# Altium integrated library TI Data Converters Analog to Digital Converter.IntLib: 2197 symbols (part 112 of 168)
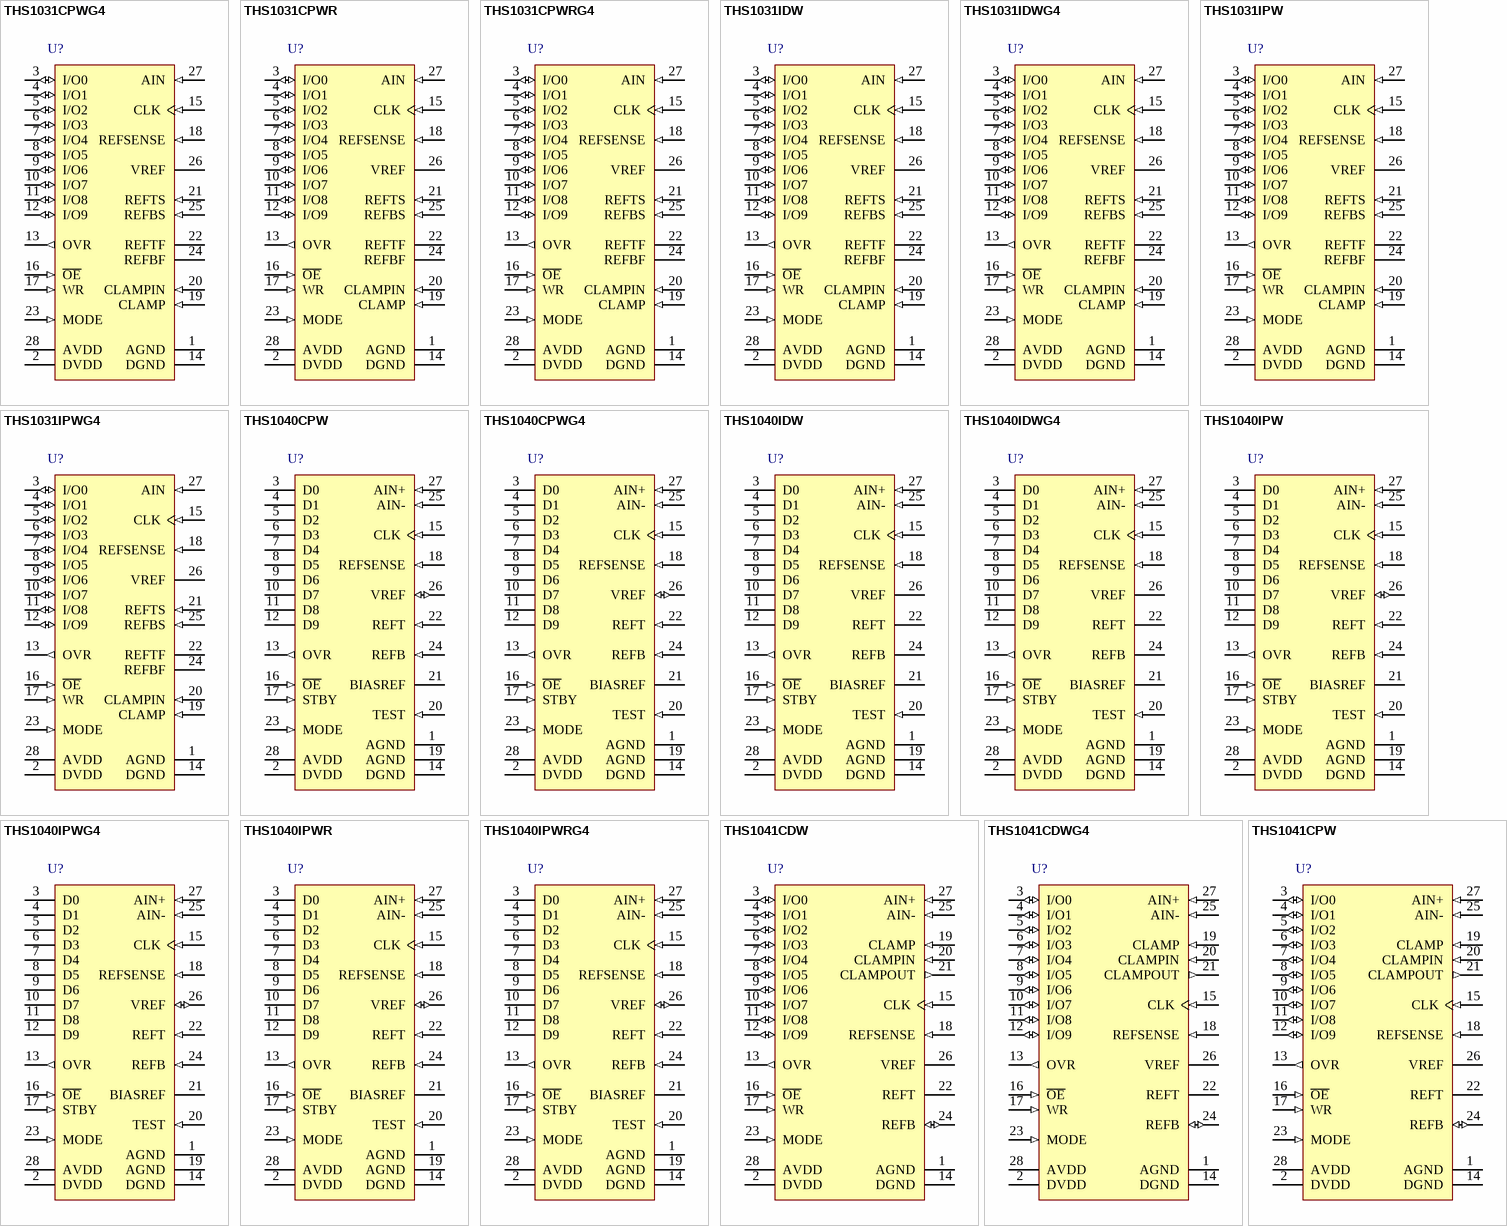
[diagram p237: symbols THS1031CPWG4 to THS1041CPW]

## THS1040IPWRG4
designator U?
10-Bit, 40 MSPS Low Power ADC, -40 to 85 degC, 28-pin SOP (PW28), Green (RoHS & no Sb/Br); Manufacturer: Texas Instruments; PartNumber: THS1040IPWRG4; # Input Channels: 1; Analog Voltage AV/DD(Max)(V): 3.6; Analog Voltage AV/DD(Min)(V): 3; Architecture: Pipeline; ENOB(Bits): 9.5; INL(Max)(+/-LSB): 1.5; Interface: Parallel CMOS; Resolution(Bits): 10; Sample Rate (max)(SPS): 40M; SFDR(dB): 70; SINAD(dB): 59.6; SNR(dB): 57; SubFamily: High Speed ADC (>10MSPS); DatasheetVersion: SLAS290C; PackageVersion: 4040064-7/G, 02/2011; PackageReference: PW28; PackageDescription: 28-Pin Plastic Small Outline, Body 9.7 x 4.4 mm, Pitch 0.65 mm; Supplier 1: Digi-Key; Supplier Part Number 1: 296-2939-5-ND; Supplier 2: Newark; Supplier Part Number 2: 76C7436; Supplier 3: Mouser; Supplier Part Number 3: 595-TLC5510INS; Digital Supply(Max)(V): 3.6; Digital Supply(Min)(V): 3; Eco-Plan: Green (RoHS & no Sb/Br); Mounting Technology: Surface Mount; Code_JEDEC: MO-153; ComponentLink1Description: Manufacturer URL; ComponentLink1URL: http://www.ti.com/; ComponentLink2Description: Datasheet; ComponentLink2URL: http://www.ti.com/general/docs/lit/getliterature.tsp?genericPartNumber=THS1040&fileType=pdf; ComponentLink3Description: Package Specification; ComponentLink3URL: http://www.ti.com/litv/pdf/mpds364
footprint TI-PW28_N (SOP, 28-Leads, Body 9.7x4.4mm, Pitch 0.65mm, IPC Medium Density)
footprint TI-PW28_L (SOP, 28-Leads, Body 9.7x4.4mm, Pitch 0.65mm, IPC High Density)
footprint TI-PW28_M (SOP, 28-Leads, Body 9.7x4.4mm, Pitch 0.65mm, IPC Low Density)
pins: 1 AGND (power) "Analog ground", 2 DVDD (power) "Digital supply", 3 D0 (hiz) "Digital data bit 0 (LSB)", 4 D1 (hiz) "Digital data bit 1", 5 D2 (hiz) "Digital data bit 2", 6 D3 (hiz) "Digital data bit 3", 7 D4 (hiz) "Digital data bit 4", 8 D5 (hiz) "Digital data bit 5", 9 D6 (hiz) "Digital data bit 6", 10 D7 (hiz) "Digital data bit 7", 11 D8 (hiz) "Digital data bit 8", 12 D9 (hiz) "Digital data bit 9 (MSB)", 13 OVR (out) "Out-of-range indicator", 14 DGND (power) "Digital ground", 15 CLK (in) "Clock input", 16 ~{OE} (in) "High to 3-state the data bus, low to enable the data bus", 17 STBY (in) "Drive high to power-down the THS1040", 18 REFSENSE (in) "VREF mode control", 19 AGND (power) "Analog ground", 20 TEST (in) "Production test pin. Tie to DVDD or DGND", 21 BIASREF (hiz) "When the MODE pin is at AVDD, a buffered AVDD/2 is present at this pin that can be used by external input biasing circuits. The output is high impedance when MODE is AGND or AVDD/2.", 22 REFT (in) "Top ADC reference voltage", 23 MODE (in) "Operating mode select (AGND, AVDD/2, or AVDD)", 24 REFB (in) "Bottom ADC reference voltage", 25 AIN- (in) "Negative analog input", 26 VREF (io) "Internal or external reference", 27 AIN+ (in) "Positive analog input", 28 AVDD (power) "Analog supply"

## THS1041CDW
designator U?
10-Bit, 40 MSPS Low Power ADC with PGA and Internal Precision Clamp, 0 to 70 degC, 28-pin SOIC (DW28), Green (RoHS & no Sb/Br); Manufacturer: Texas Instruments; PartNumber: THS1041CDW; # Input Channels: 1; Analog Voltage AV/DD(Max)(V): 3.6; Analog Voltage AV/DD(Min)(V): 3; Architecture: Pipeline; ENOB(Bits): 9.5; INL(Max)(+/-LSB): 1.5; Interface: Parallel CMOS; Resolution(Bits): 10; Sample Rate (max)(SPS): 40M; SFDR(dB): 70; SINAD(dB): 59.6; SNR(dB): 57; SubFamily: High Speed ADC (>10MSPS); DatasheetVersion: SLAS289C; PackageVersion: 4040000-6/G, 01/2011; PackageReference: DW28; PackageDescription: 28-Pin Plastic Small Outline, Body 17.90 x 7.50 mm, Pitch 1.27 mm; Supplier 1: Digi-Key; Supplier Part Number 1: TLC5510INSG4-ND; Supplier 2: Mouser; Supplier Part Number 2: 595-TLC5510INSG4; Digital Supply(Max)(V): 3.6; Digital Supply(Min)(V): 3; Eco-Plan: Green (RoHS & no Sb/Br); Mounting Technology: Surface Mount; Code_JEDEC: MS-013; ComponentLink1Description: Manufacturer URL; ComponentLink1URL: http://www.ti.com/; ComponentLink2Description: Datasheet; ComponentLink2URL: http://www.ti.com/general/docs/lit/getliterature.tsp?genericPartNumber=THS1041&fileType=pdf; ComponentLink3Description: Package Specification; ComponentLink3URL: http://www.ti.com/lit/ml/mpds175a/mpds175a.pdf
footprint TI-DW28_N (SOIC, 28-Leads, Body 17.9x7.5mm, Pitch 1.27mm, IPC Medium Density)
footprint TI-DW28_L (SOIC, 28-Leads, Body 17.9x7.5mm, Pitch 1.27mm, IPC High Density)
footprint TI-DW28_M (SOIC, 28-Leads, Body 17.9x7.5mm, Pitch 1.27mm, IPC Low Density)
pins: 1 AGND (power) "Analog ground", 2 DVDD (power) "Digital supply", 3 I/O0 (io) "Digital I/O bit 0", 4 I/O1 (io) "Digital I/O bit 1", 5 I/O2 (io) "Digital I/O bit 2", 6 I/O3 (io) "Digital I/O bit 3", 7 I/O4 (io) "Digital I/O bit 4", 8 I/O5 (io) "Digital I/O bit 5", 9 I/O6 (io) "Digital I/O bit 6", 10 I/O7 (io) "Digital I/O bit 7", 11 I/O8 (io) "Digital I/O bit 8", 12 I/O9 (io) "Digital I/O bit 9", 13 OVR (out) "Out-of-range indicator", 14 DGND (power) "Digital ground", 15 CLK (in) "Clock input", 16 ~{OE} (in) "High to high-impedance state the data bus, low to enable the data bus", 17 WR (in) "Write strobe", 18 REFSENSE (in) "VREF mode control", 19 CLAMP (in) "High to enable clamp mode, low to disable clamp mode", 20 CLAMPIN (in) "Connect to an external analog clamp reference input.", 21 CLAMPOUT (out) "The CLAMPOUT pin can provide a dc restoration or a bias source function (see AC reference generation section). If neither function is required then the clamp can be disabled to save power (see power management section).", 22 REFT "Top ADC reference voltage", 23 MODE (in) "Operating mode select (AGND, AVDD/2, AVDD)", 24 REFB (io) "Bottom ADC reference voltage", 25 AIN- (in) "Negative analog input", 26 VREF "Internal or external reference", 27 AIN+ (in) "Positive analog input", 28 AVDD (power) "Analog supply"

## THS1041CDWG4
designator U?
10-Bit, 40 MSPS Low Power ADC with PGA and Internal Precision Clamp, 0 to 70 degC, 28-pin SOIC (DW28), Green (RoHS & no Sb/Br); Manufacturer: Texas Instruments; PartNumber: THS1041CDWG4; # Input Channels: 1; Analog Voltage AV/DD(Max)(V): 3.6; Analog Voltage AV/DD(Min)(V): 3; Architecture: Pipeline; ENOB(Bits): 9.5; INL(Max)(+/-LSB): 1.5; Interface: Parallel CMOS; Resolution(Bits): 10; Sample Rate (max)(SPS): 40M; SFDR(dB): 70; SINAD(dB): 59.6; SNR(dB): 57; SubFamily: High Speed ADC (>10MSPS); DatasheetVersion: SLAS289C; PackageVersion: 4040000-6/G, 01/2011; PackageReference: DW28; PackageDescription: 28-Pin Plastic Small Outline, Body 17.90 x 7.50 mm, Pitch 1.27 mm; Supplier 1: Digi-Key; Supplier Part Number 1: 296-2939-2-ND; Supplier 2: Digi-Key; Supplier Part Number 2: 296-2939-1-ND; Supplier 3: Digi-Key; Supplier Part Number 3: 296-2939-6-ND; Supplier 4: Newark; Supplier Part Number 4: 76C7437; Supplier 5: Mouser; Supplier Part Number 5: 595-TLC5510INSR; Digital Supply(Max)(V): 3.6; Digital Supply(Min)(V): 3; Eco-Plan: Green (RoHS & no Sb/Br); Mounting Technology: Surface Mount; Code_JEDEC: MS-013; ComponentLink1Description: Manufacturer URL; ComponentLink1URL: http://www.ti.com/; ComponentLink2Description: Datasheet; ComponentLink2URL: http://www.ti.com/general/docs/lit/getliterature.tsp?genericPartNumber=THS1041&fileType=pdf; ComponentLink3Description: Package Specification; ComponentLink3URL: http://www.ti.com/lit/ml/mpds175a/mpds175a.pdf
footprint TI-DW28_N (SOIC, 28-Leads, Body 17.9x7.5mm, Pitch 1.27mm, IPC Medium Density)
footprint TI-DW28_L (SOIC, 28-Leads, Body 17.9x7.5mm, Pitch 1.27mm, IPC High Density)
footprint TI-DW28_M (SOIC, 28-Leads, Body 17.9x7.5mm, Pitch 1.27mm, IPC Low Density)
pins: 1 AGND (power) "Analog ground", 2 DVDD (power) "Digital supply", 3 I/O0 (io) "Digital I/O bit 0", 4 I/O1 (io) "Digital I/O bit 1", 5 I/O2 (io) "Digital I/O bit 2", 6 I/O3 (io) "Digital I/O bit 3", 7 I/O4 (io) "Digital I/O bit 4", 8 I/O5 (io) "Digital I/O bit 5", 9 I/O6 (io) "Digital I/O bit 6", 10 I/O7 (io) "Digital I/O bit 7", 11 I/O8 (io) "Digital I/O bit 8", 12 I/O9 (io) "Digital I/O bit 9", 13 OVR (out) "Out-of-range indicator", 14 DGND (power) "Digital ground", 15 CLK (in) "Clock input", 16 ~{OE} (in) "High to high-impedance state the data bus, low to enable the data bus", 17 WR (in) "Write strobe", 18 REFSENSE (in) "VREF mode control", 19 CLAMP (in) "High to enable clamp mode, low to disable clamp mode", 20 CLAMPIN (in) "Connect to an external analog clamp reference input.", 21 CLAMPOUT (out) "The CLAMPOUT pin can provide a dc restoration or a bias source function (see AC reference generation section). If neither function is required then the clamp can be disabled to save power (see power management section).", 22 REFT "Top ADC reference voltage", 23 MODE (in) "Operating mode select (AGND, AVDD/2, AVDD)", 24 REFB (io) "Bottom ADC reference voltage", 25 AIN- (in) "Negative analog input", 26 VREF "Internal or external reference", 27 AIN+ (in) "Positive analog input", 28 AVDD (power) "Analog supply"

## THS1041CPW
designator U?
10-Bit, 40 MSPS Low Power ADC with PGA and Internal Precision Clamp, 0 to 70 degC, 28-pin SOP (PW28), Green (RoHS & no Sb/Br); Manufacturer: Texas Instruments; PartNumber: THS1041CPW; # Input Channels: 1; Analog Voltage AV/DD(Max)(V): 3.6; Analog Voltage AV/DD(Min)(V): 3; Architecture: Pipeline; ENOB(Bits): 9.5; INL(Max)(+/-LSB): 1.5; Interface: Parallel CMOS; Resolution(Bits): 10; Sample Rate (max)(SPS): 40M; SFDR(dB): 70; SINAD(dB): 59.6; SNR(dB): 57; SubFamily: High Speed ADC (>10MSPS); DatasheetVersion: SLAS289C; PackageVersion: 4040064-7/G, 02/2011; PackageReference: PW28; PackageDescription: 28-Pin Plastic Small Outline, Body 9.7 x 4.4 mm, Pitch 0.65 mm; Supplier 1: Digi-Key; Supplier Part Number 1: TLC5510INSRG4-ND; Supplier 2: Newark; Supplier Part Number 2: 54K1007; Supplier 3: Mouser; Supplier Part Number 3: 595-TLC5510INSRG4; Digital Supply(Max)(V): 3.6; Digital Supply(Min)(V): 3; Eco-Plan: Green (RoHS & no Sb/Br); Mounting Technology: Surface Mount; Code_JEDEC: MO-153; ComponentLink1Description: Manufacturer URL; ComponentLink1URL: http://www.ti.com/; ComponentLink2Description: Datasheet; ComponentLink2URL: http://www.ti.com/general/docs/lit/getliterature.tsp?genericPartNumber=THS1041&fileType=pdf; ComponentLink3Description: Package Specification; ComponentLink3URL: http://www.ti.com/litv/pdf/mpds364
footprint TI-PW28_N (SOP, 28-Leads, Body 9.7x4.4mm, Pitch 0.65mm, IPC Medium Density)
footprint TI-PW28_L (SOP, 28-Leads, Body 9.7x4.4mm, Pitch 0.65mm, IPC High Density)
footprint TI-PW28_M (SOP, 28-Leads, Body 9.7x4.4mm, Pitch 0.65mm, IPC Low Density)
pins: 1 AGND (power) "Analog ground", 2 DVDD (power) "Digital supply", 3 I/O0 (io) "Digital I/O bit 0", 4 I/O1 (io) "Digital I/O bit 1", 5 I/O2 (io) "Digital I/O bit 2", 6 I/O3 (io) "Digital I/O bit 3", 7 I/O4 (io) "Digital I/O bit 4", 8 I/O5 (io) "Digital I/O bit 5", 9 I/O6 (io) "Digital I/O bit 6", 10 I/O7 (io) "Digital I/O bit 7", 11 I/O8 (io) "Digital I/O bit 8", 12 I/O9 (io) "Digital I/O bit 9", 13 OVR (out) "Out-of-range indicator", 14 DGND (power) "Digital ground", 15 CLK (in) "Clock input", 16 ~{OE} (in) "High to high-impedance state the data bus, low to enable the data bus", 17 WR (in) "Write strobe", 18 REFSENSE (in) "VREF mode control", 19 CLAMP (in) "High to enable clamp mode, low to disable clamp mode", 20 CLAMPIN (in) "Connect to an external analog clamp reference input.", 21 CLAMPOUT (out) "The CLAMPOUT pin can provide a dc restoration or a bias source function (see AC reference generation section). If neither function is required then the clamp can be disabled to save power (see power management section).", 22 REFT "Top ADC reference voltage", 23 MODE (in) "Operating mode select (AGND, AVDD/2, AVDD)", 24 REFB (io) "Bottom ADC reference voltage", 25 AIN- (in) "Negative analog input", 26 VREF "Internal or external reference", 27 AIN+ (in) "Positive analog input", 28 AVDD (power) "Analog supply"

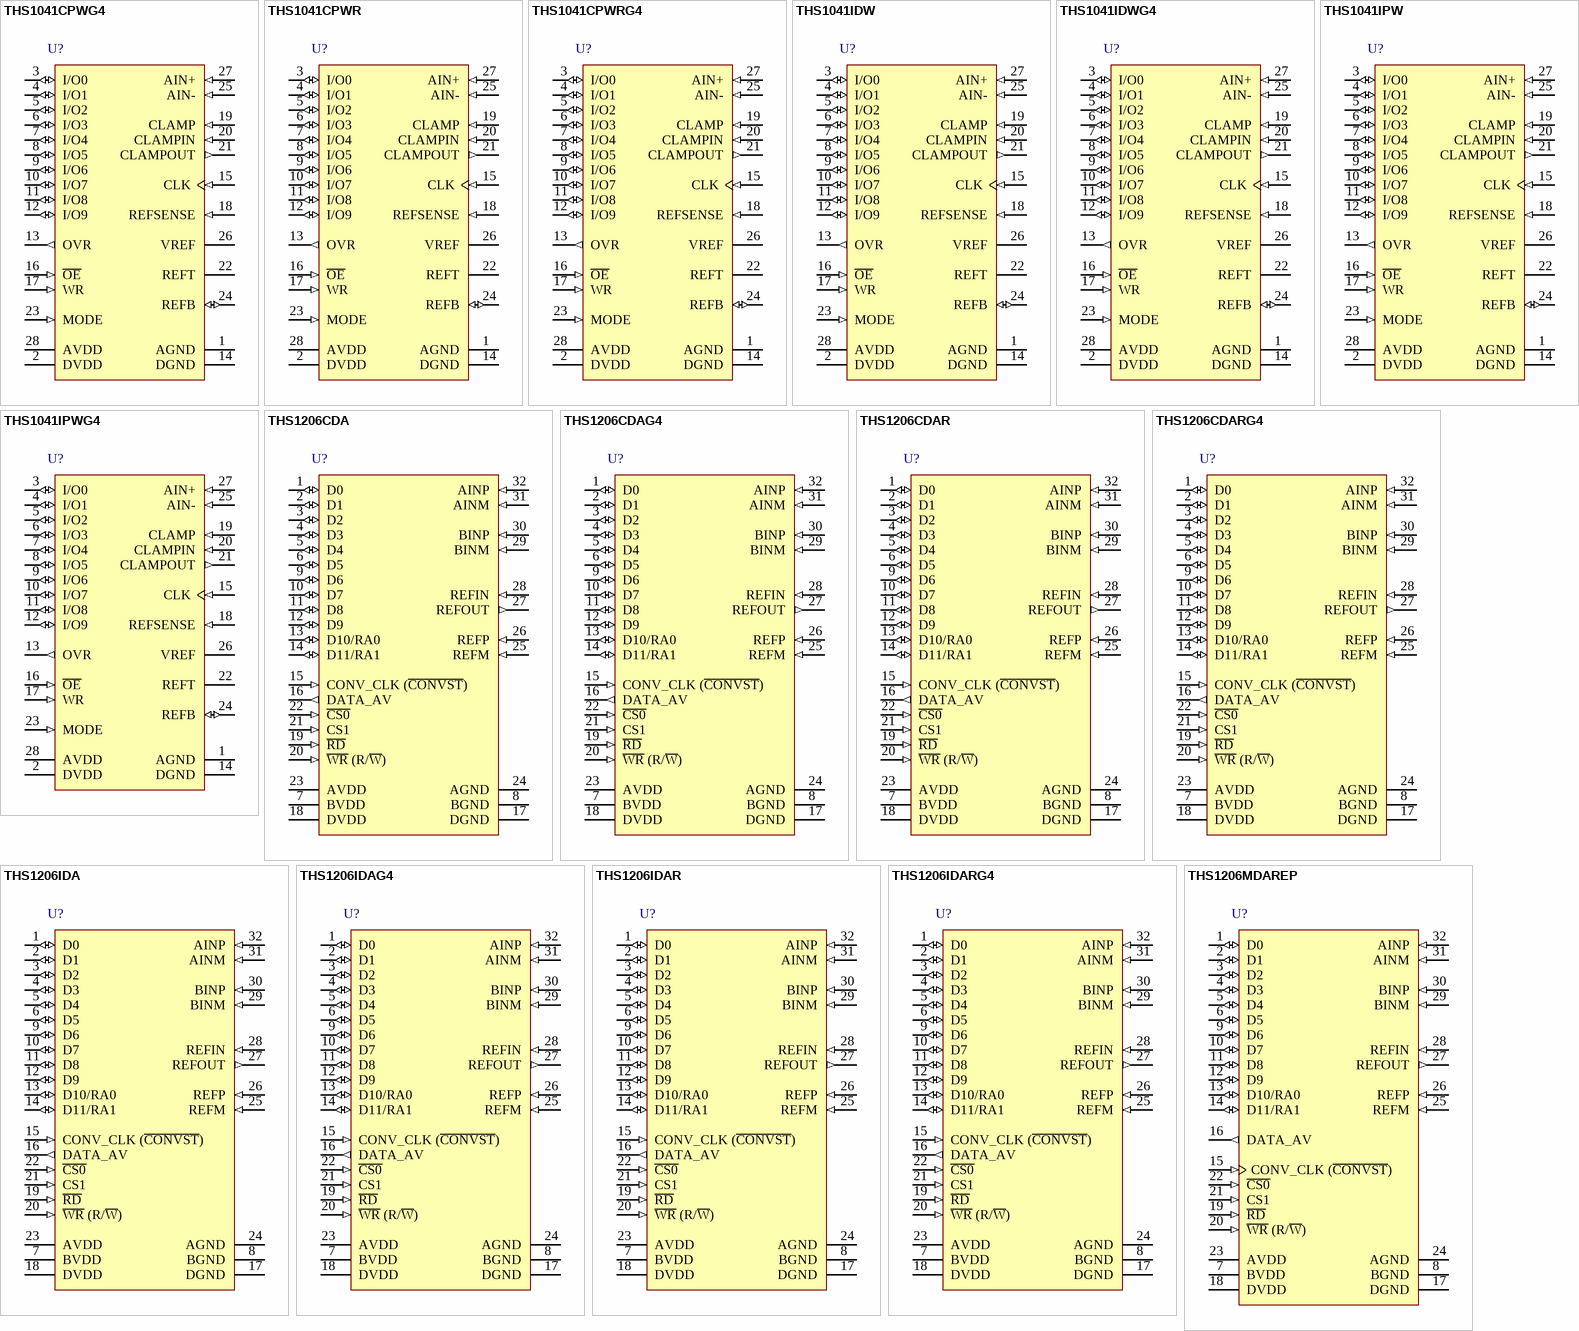
[diagram p96: symbols THS1041CPWG4 to THS1206MDAREP]

## THS1041CPWG4
designator U?
10-Bit, 40 MSPS Low Power ADC with PGA and Internal Precision Clamp, 0 to 70 degC, 28-pin SOP (PW28), Green (RoHS & no Sb/Br); Manufacturer: Texas Instruments; PartNumber: THS1041CPWG4; # Input Channels: 1; Analog Voltage AV/DD(Max)(V): 3.6; Analog Voltage AV/DD(Min)(V): 3; Architecture: Pipeline; ENOB(Bits): 9.5; INL(Max)(+/-LSB): 1.5; Interface: Parallel CMOS; Resolution(Bits): 10; Sample Rate (max)(SPS): 40M; SFDR(dB): 70; SINAD(dB): 59.6; SNR(dB): 57; SubFamily: High Speed ADC (>10MSPS); DatasheetVersion: SLAS289C; PackageVersion: 4040064-7/G, 02/2011; PackageReference: PW28; PackageDescription: 28-Pin Plastic Small Outline, Body 9.7 x 4.4 mm, Pitch 0.65 mm; Supplier 1: Digi-Key; Supplier Part Number 1: 296-2183-5-ND; Supplier 2: Farnell; Supplier Part Number 2: 8454370; Supplier 3: Newark; Supplier Part Number 3: 76C7438; Supplier 4: Mouser; Supplier Part Number 4: 595-TLC5510IPW; Digital Supply(Max)(V): 3.6; Digital Supply(Min)(V): 3; Eco-Plan: Green (RoHS & no Sb/Br); Mounting Technology: Surface Mount; Code_JEDEC: MO-153; ComponentLink1Description: Manufacturer URL; ComponentLink1URL: http://www.ti.com/; ComponentLink2Description: Datasheet; ComponentLink2URL: http://www.ti.com/general/docs/lit/getliterature.tsp?genericPartNumber=THS1041&fileType=pdf; ComponentLink3Description: Package Specification; ComponentLink3URL: http://www.ti.com/litv/pdf/mpds364
footprint TI-PW28_N (SOP, 28-Leads, Body 9.7x4.4mm, Pitch 0.65mm, IPC Medium Density)
footprint TI-PW28_L (SOP, 28-Leads, Body 9.7x4.4mm, Pitch 0.65mm, IPC High Density)
footprint TI-PW28_M (SOP, 28-Leads, Body 9.7x4.4mm, Pitch 0.65mm, IPC Low Density)
pins: 1 AGND (power) "Analog ground", 2 DVDD (power) "Digital supply", 3 I/O0 (io) "Digital I/O bit 0", 4 I/O1 (io) "Digital I/O bit 1", 5 I/O2 (io) "Digital I/O bit 2", 6 I/O3 (io) "Digital I/O bit 3", 7 I/O4 (io) "Digital I/O bit 4", 8 I/O5 (io) "Digital I/O bit 5", 9 I/O6 (io) "Digital I/O bit 6", 10 I/O7 (io) "Digital I/O bit 7", 11 I/O8 (io) "Digital I/O bit 8", 12 I/O9 (io) "Digital I/O bit 9", 13 OVR (out) "Out-of-range indicator", 14 DGND (power) "Digital ground", 15 CLK (in) "Clock input", 16 ~{OE} (in) "High to high-impedance state the data bus, low to enable the data bus", 17 WR (in) "Write strobe", 18 REFSENSE (in) "VREF mode control", 19 CLAMP (in) "High to enable clamp mode, low to disable clamp mode", 20 CLAMPIN (in) "Connect to an external analog clamp reference input.", 21 CLAMPOUT (out) "The CLAMPOUT pin can provide a dc restoration or a bias source function (see AC reference generation section). If neither function is required then the clamp can be disabled to save power (see power management section).", 22 REFT "Top ADC reference voltage", 23 MODE (in) "Operating mode select (AGND, AVDD/2, AVDD)", 24 REFB (io) "Bottom ADC reference voltage", 25 AIN- (in) "Negative analog input", 26 VREF "Internal or external reference", 27 AIN+ (in) "Positive analog input", 28 AVDD (power) "Analog supply"

## THS1041CPWR
designator U?
10-Bit, 40 MSPS Low Power ADC with PGA and Internal Precision Clamp, 0 to 70 degC, 28-pin SOP (PW28), Green (RoHS & no Sb/Br); Manufacturer: Texas Instruments; PartNumber: THS1041CPWR; # Input Channels: 1; Analog Voltage AV/DD(Max)(V): 3.6; Analog Voltage AV/DD(Min)(V): 3; Architecture: Pipeline; ENOB(Bits): 9.5; INL(Max)(+/-LSB): 1.5; Interface: Parallel CMOS; Resolution(Bits): 10; Sample Rate (max)(SPS): 40M; SFDR(dB): 70; SINAD(dB): 59.6; SNR(dB): 57; SubFamily: High Speed ADC (>10MSPS); DatasheetVersion: SLAS289C; PackageVersion: 4040064-7/G, 02/2011; PackageReference: PW28; PackageDescription: 28-Pin Plastic Small Outline, Body 9.7 x 4.4 mm, Pitch 0.65 mm; Supplier 1: Digi-Key; Supplier Part Number 1: TLC5510IPWG4-ND; Supplier 2: Mouser; Supplier Part Number 2: 595-TLC5510IPWG4; Digital Supply(Max)(V): 3.6; Digital Supply(Min)(V): 3; Eco-Plan: Green (RoHS & no Sb/Br); Mounting Technology: Surface Mount; Code_JEDEC: MO-153; ComponentLink1Description: Manufacturer URL; ComponentLink1URL: http://www.ti.com/; ComponentLink2Description: Datasheet; ComponentLink2URL: http://www.ti.com/general/docs/lit/getliterature.tsp?genericPartNumber=THS1041&fileType=pdf; ComponentLink3Description: Package Specification; ComponentLink3URL: http://www.ti.com/litv/pdf/mpds364
footprint TI-PW28_N (SOP, 28-Leads, Body 9.7x4.4mm, Pitch 0.65mm, IPC Medium Density)
footprint TI-PW28_L (SOP, 28-Leads, Body 9.7x4.4mm, Pitch 0.65mm, IPC High Density)
footprint TI-PW28_M (SOP, 28-Leads, Body 9.7x4.4mm, Pitch 0.65mm, IPC Low Density)
pins: 1 AGND (power) "Analog ground", 2 DVDD (power) "Digital supply", 3 I/O0 (io) "Digital I/O bit 0", 4 I/O1 (io) "Digital I/O bit 1", 5 I/O2 (io) "Digital I/O bit 2", 6 I/O3 (io) "Digital I/O bit 3", 7 I/O4 (io) "Digital I/O bit 4", 8 I/O5 (io) "Digital I/O bit 5", 9 I/O6 (io) "Digital I/O bit 6", 10 I/O7 (io) "Digital I/O bit 7", 11 I/O8 (io) "Digital I/O bit 8", 12 I/O9 (io) "Digital I/O bit 9", 13 OVR (out) "Out-of-range indicator", 14 DGND (power) "Digital ground", 15 CLK (in) "Clock input", 16 ~{OE} (in) "High to high-impedance state the data bus, low to enable the data bus", 17 WR (in) "Write strobe", 18 REFSENSE (in) "VREF mode control", 19 CLAMP (in) "High to enable clamp mode, low to disable clamp mode", 20 CLAMPIN (in) "Connect to an external analog clamp reference input.", 21 CLAMPOUT (out) "The CLAMPOUT pin can provide a dc restoration or a bias source function (see AC reference generation section). If neither function is required then the clamp can be disabled to save power (see power management section).", 22 REFT "Top ADC reference voltage", 23 MODE (in) "Operating mode select (AGND, AVDD/2, AVDD)", 24 REFB (io) "Bottom ADC reference voltage", 25 AIN- (in) "Negative analog input", 26 VREF "Internal or external reference", 27 AIN+ (in) "Positive analog input", 28 AVDD (power) "Analog supply"

## THS1041CPWRG4
designator U?
10-Bit, 40 MSPS Low Power ADC with PGA and Internal Precision Clamp, 0 to 70 degC, 28-pin SOP (PW28), Green (RoHS & no Sb/Br); Manufacturer: Texas Instruments; PartNumber: THS1041CPWRG4; # Input Channels: 1; Analog Voltage AV/DD(Max)(V): 3.6; Analog Voltage AV/DD(Min)(V): 3; Architecture: Pipeline; ENOB(Bits): 9.5; INL(Max)(+/-LSB): 1.5; Interface: Parallel CMOS; Resolution(Bits): 10; Sample Rate (max)(SPS): 40M; SFDR(dB): 70; SINAD(dB): 59.6; SNR(dB): 57; SubFamily: High Speed ADC (>10MSPS); DatasheetVersion: SLAS289C; PackageVersion: 4040064-7/G, 02/2011; PackageReference: PW28; PackageDescription: 28-Pin Plastic Small Outline, Body 9.7 x 4.4 mm, Pitch 0.65 mm; Supplier 1: Digi-Key; Supplier Part Number 1: TLC5510IPWR-ND; Supplier 2: Mouser; Supplier Part Number 2: 595-TLC5510IPWR; Digital Supply(Max)(V): 3.6; Digital Supply(Min)(V): 3; Eco-Plan: Green (RoHS & no Sb/Br); Mounting Technology: Surface Mount; Code_JEDEC: MO-153; ComponentLink1Description: Manufacturer URL; ComponentLink1URL: http://www.ti.com/; ComponentLink2Description: Datasheet; ComponentLink2URL: http://www.ti.com/general/docs/lit/getliterature.tsp?genericPartNumber=THS1041&fileType=pdf; ComponentLink3Description: Package Specification; ComponentLink3URL: http://www.ti.com/litv/pdf/mpds364
footprint TI-PW28_N (SOP, 28-Leads, Body 9.7x4.4mm, Pitch 0.65mm, IPC Medium Density)
footprint TI-PW28_L (SOP, 28-Leads, Body 9.7x4.4mm, Pitch 0.65mm, IPC High Density)
footprint TI-PW28_M (SOP, 28-Leads, Body 9.7x4.4mm, Pitch 0.65mm, IPC Low Density)
pins: 1 AGND (power) "Analog ground", 2 DVDD (power) "Digital supply", 3 I/O0 (io) "Digital I/O bit 0", 4 I/O1 (io) "Digital I/O bit 1", 5 I/O2 (io) "Digital I/O bit 2", 6 I/O3 (io) "Digital I/O bit 3", 7 I/O4 (io) "Digital I/O bit 4", 8 I/O5 (io) "Digital I/O bit 5", 9 I/O6 (io) "Digital I/O bit 6", 10 I/O7 (io) "Digital I/O bit 7", 11 I/O8 (io) "Digital I/O bit 8", 12 I/O9 (io) "Digital I/O bit 9", 13 OVR (out) "Out-of-range indicator", 14 DGND (power) "Digital ground", 15 CLK (in) "Clock input", 16 ~{OE} (in) "High to high-impedance state the data bus, low to enable the data bus", 17 WR (in) "Write strobe", 18 REFSENSE (in) "VREF mode control", 19 CLAMP (in) "High to enable clamp mode, low to disable clamp mode", 20 CLAMPIN (in) "Connect to an external analog clamp reference input.", 21 CLAMPOUT (out) "The CLAMPOUT pin can provide a dc restoration or a bias source function (see AC reference generation section). If neither function is required then the clamp can be disabled to save power (see power management section).", 22 REFT "Top ADC reference voltage", 23 MODE (in) "Operating mode select (AGND, AVDD/2, AVDD)", 24 REFB (io) "Bottom ADC reference voltage", 25 AIN- (in) "Negative analog input", 26 VREF "Internal or external reference", 27 AIN+ (in) "Positive analog input", 28 AVDD (power) "Analog supply"

## THS1041IDW
designator U?
10-Bit, 40 MSPS Low Power ADC with PGA and Internal Precision Clamp, -40 to 85 degC, 28-pin SOIC (DW28), Green (RoHS & no Sb/Br); Manufacturer: Texas Instruments; PartNumber: THS1041IDW; # Input Channels: 1; Analog Voltage AV/DD(Max)(V): 3.6; Analog Voltage AV/DD(Min)(V): 3; Architecture: Pipeline; ENOB(Bits): 9.5; INL(Max)(+/-LSB): 1.5; Interface: Parallel CMOS; Resolution(Bits): 10; Sample Rate (max)(SPS): 40M; SFDR(dB): 70; SINAD(dB): 59.6; SNR(dB): 57; SubFamily: High Speed ADC (>10MSPS); DatasheetVersion: SLAS289C; PackageVersion: 4040000-6/G, 01/2011; PackageReference: DW28; PackageDescription: 28-Pin Plastic Small Outline, Body 17.90 x 7.50 mm, Pitch 1.27 mm; Supplier 1: Digi-Key; Supplier Part Number 1: TLC5510IPWRG4-ND; Supplier 2: Mouser; Supplier Part Number 2: 595-TLC5510IPWRG4; Digital Supply(Max)(V): 3.6; Digital Supply(Min)(V): 3; Eco-Plan: Green (RoHS & no Sb/Br); Mounting Technology: Surface Mount; Code_JEDEC: MS-013; ComponentLink1Description: Manufacturer URL; ComponentLink1URL: http://www.ti.com/; ComponentLink2Description: Datasheet; ComponentLink2URL: http://www.ti.com/general/docs/lit/getliterature.tsp?genericPartNumber=THS1041&fileType=pdf; ComponentLink3Description: Package Specification; ComponentLink3URL: http://www.ti.com/lit/ml/mpds175a/mpds175a.pdf
footprint TI-DW28_N (SOIC, 28-Leads, Body 17.9x7.5mm, Pitch 1.27mm, IPC Medium Density)
footprint TI-DW28_L (SOIC, 28-Leads, Body 17.9x7.5mm, Pitch 1.27mm, IPC High Density)
footprint TI-DW28_M (SOIC, 28-Leads, Body 17.9x7.5mm, Pitch 1.27mm, IPC Low Density)
pins: 1 AGND (power) "Analog ground", 2 DVDD (power) "Digital supply", 3 I/O0 (io) "Digital I/O bit 0", 4 I/O1 (io) "Digital I/O bit 1", 5 I/O2 (io) "Digital I/O bit 2", 6 I/O3 (io) "Digital I/O bit 3", 7 I/O4 (io) "Digital I/O bit 4", 8 I/O5 (io) "Digital I/O bit 5", 9 I/O6 (io) "Digital I/O bit 6", 10 I/O7 (io) "Digital I/O bit 7", 11 I/O8 (io) "Digital I/O bit 8", 12 I/O9 (io) "Digital I/O bit 9", 13 OVR (out) "Out-of-range indicator", 14 DGND (power) "Digital ground", 15 CLK (in) "Clock input", 16 ~{OE} (in) "High to high-impedance state the data bus, low to enable the data bus", 17 WR (in) "Write strobe", 18 REFSENSE (in) "VREF mode control", 19 CLAMP (in) "High to enable clamp mode, low to disable clamp mode", 20 CLAMPIN (in) "Connect to an external analog clamp reference input.", 21 CLAMPOUT (out) "The CLAMPOUT pin can provide a dc restoration or a bias source function (see AC reference generation section). If neither function is required then the clamp can be disabled to save power (see power management section).", 22 REFT "Top ADC reference voltage", 23 MODE (in) "Operating mode select (AGND, AVDD/2, AVDD)", 24 REFB (io) "Bottom ADC reference voltage", 25 AIN- (in) "Negative analog input", 26 VREF "Internal or external reference", 27 AIN+ (in) "Positive analog input", 28 AVDD (power) "Analog supply"

## THS1041IDWG4
designator U?
10-Bit, 40 MSPS Low Power ADC with PGA and Internal Precision Clamp, -40 to 85 degC, 28-pin SOIC (DW28), Green (RoHS & no Sb/Br); Manufacturer: Texas Instruments; PartNumber: THS1041IDWG4; # Input Channels: 1; Analog Voltage AV/DD(Max)(V): 3.6; Analog Voltage AV/DD(Min)(V): 3; Architecture: Pipeline; ENOB(Bits): 9.5; INL(Max)(+/-LSB): 1.5; Interface: Parallel CMOS; Resolution(Bits): 10; Sample Rate (max)(SPS): 40M; SFDR(dB): 70; SINAD(dB): 59.6; SNR(dB): 57; SubFamily: High Speed ADC (>10MSPS); DatasheetVersion: SLAS289C; PackageVersion: 4040000-6/G, 01/2011; PackageReference: DW28; PackageDescription: 28-Pin Plastic Small Outline, Body 17.90 x 7.50 mm, Pitch 1.27 mm; Supplier 1: Digi-Key; Supplier Part Number 1: 296-2938-5-ND; Supplier 2: Farnell; Supplier Part Number 2: 1411368; Supplier 3: Mouser; Supplier Part Number 3: 595-TLC5510AINS; Digital Supply(Max)(V): 3.6; Digital Supply(Min)(V): 3; Eco-Plan: Green (RoHS & no Sb/Br); Mounting Technology: Surface Mount; Code_JEDEC: MS-013; ComponentLink1Description: Manufacturer URL; ComponentLink1URL: http://www.ti.com/; ComponentLink2Description: Datasheet; ComponentLink2URL: http://www.ti.com/general/docs/lit/getliterature.tsp?genericPartNumber=THS1041&fileType=pdf; ComponentLink3Description: Package Specification; ComponentLink3URL: http://www.ti.com/lit/ml/mpds175a/mpds175a.pdf
footprint TI-DW28_N (SOIC, 28-Leads, Body 17.9x7.5mm, Pitch 1.27mm, IPC Medium Density)
footprint TI-DW28_L (SOIC, 28-Leads, Body 17.9x7.5mm, Pitch 1.27mm, IPC High Density)
footprint TI-DW28_M (SOIC, 28-Leads, Body 17.9x7.5mm, Pitch 1.27mm, IPC Low Density)
pins: 1 AGND (power) "Analog ground", 2 DVDD (power) "Digital supply", 3 I/O0 (io) "Digital I/O bit 0", 4 I/O1 (io) "Digital I/O bit 1", 5 I/O2 (io) "Digital I/O bit 2", 6 I/O3 (io) "Digital I/O bit 3", 7 I/O4 (io) "Digital I/O bit 4", 8 I/O5 (io) "Digital I/O bit 5", 9 I/O6 (io) "Digital I/O bit 6", 10 I/O7 (io) "Digital I/O bit 7", 11 I/O8 (io) "Digital I/O bit 8", 12 I/O9 (io) "Digital I/O bit 9", 13 OVR (out) "Out-of-range indicator", 14 DGND (power) "Digital ground", 15 CLK (in) "Clock input", 16 ~{OE} (in) "High to high-impedance state the data bus, low to enable the data bus", 17 WR (in) "Write strobe", 18 REFSENSE (in) "VREF mode control", 19 CLAMP (in) "High to enable clamp mode, low to disable clamp mode", 20 CLAMPIN (in) "Connect to an external analog clamp reference input.", 21 CLAMPOUT (out) "The CLAMPOUT pin can provide a dc restoration or a bias source function (see AC reference generation section). If neither function is required then the clamp can be disabled to save power (see power management section).", 22 REFT "Top ADC reference voltage", 23 MODE (in) "Operating mode select (AGND, AVDD/2, AVDD)", 24 REFB (io) "Bottom ADC reference voltage", 25 AIN- (in) "Negative analog input", 26 VREF "Internal or external reference", 27 AIN+ (in) "Positive analog input", 28 AVDD (power) "Analog supply"

## THS1041IPW
designator U?
10-Bit, 40 MSPS Low Power ADC with PGA and Internal Precision Clamp, -40 to 85 degC, 28-pin SOP (PW28), Green (RoHS & no Sb/Br); Manufacturer: Texas Instruments; PartNumber: THS1041IPW; # Input Channels: 1; Analog Voltage AV/DD(Max)(V): 3.6; Analog Voltage AV/DD(Min)(V): 3; Architecture: Pipeline; ENOB(Bits): 9.5; INL(Max)(+/-LSB): 1.5; Interface: Parallel CMOS; Resolution(Bits): 10; Sample Rate (max)(SPS): 40M; SFDR(dB): 70; SINAD(dB): 59.6; SNR(dB): 57; SubFamily: High Speed ADC (>10MSPS); DatasheetVersion: SLAS289C; PackageVersion: 4040064-7/G, 02/2011; PackageReference: PW28; PackageDescription: 28-Pin Plastic Small Outline, Body 9.7 x 4.4 mm, Pitch 0.65 mm; Supplier 1: Digi-Key; Supplier Part Number 1: TLC5510AINSG4-ND; Supplier 2: Newark; Supplier Part Number 2: 54K1004; Supplier 3: Mouser; Supplier Part Number 3: 595-TLC5510AINSG4; Digital Supply(Max)(V): 3.6; Digital Supply(Min)(V): 3; Eco-Plan: Green (RoHS & no Sb/Br); Mounting Technology: Surface Mount; Code_JEDEC: MO-153; ComponentLink1Description: Manufacturer URL; ComponentLink1URL: http://www.ti.com/; ComponentLink2Description: Datasheet; ComponentLink2URL: http://www.ti.com/general/docs/lit/getliterature.tsp?genericPartNumber=THS1041&fileType=pdf; ComponentLink3Description: Package Specification; ComponentLink3URL: http://www.ti.com/litv/pdf/mpds364
footprint TI-PW28_N (SOP, 28-Leads, Body 9.7x4.4mm, Pitch 0.65mm, IPC Medium Density)
footprint TI-PW28_L (SOP, 28-Leads, Body 9.7x4.4mm, Pitch 0.65mm, IPC High Density)
footprint TI-PW28_M (SOP, 28-Leads, Body 9.7x4.4mm, Pitch 0.65mm, IPC Low Density)
pins: 1 AGND (power) "Analog ground", 2 DVDD (power) "Digital supply", 3 I/O0 (io) "Digital I/O bit 0", 4 I/O1 (io) "Digital I/O bit 1", 5 I/O2 (io) "Digital I/O bit 2", 6 I/O3 (io) "Digital I/O bit 3", 7 I/O4 (io) "Digital I/O bit 4", 8 I/O5 (io) "Digital I/O bit 5", 9 I/O6 (io) "Digital I/O bit 6", 10 I/O7 (io) "Digital I/O bit 7", 11 I/O8 (io) "Digital I/O bit 8", 12 I/O9 (io) "Digital I/O bit 9", 13 OVR (out) "Out-of-range indicator", 14 DGND (power) "Digital ground", 15 CLK (in) "Clock input", 16 ~{OE} (in) "High to high-impedance state the data bus, low to enable the data bus", 17 WR (in) "Write strobe", 18 REFSENSE (in) "VREF mode control", 19 CLAMP (in) "High to enable clamp mode, low to disable clamp mode", 20 CLAMPIN (in) "Connect to an external analog clamp reference input.", 21 CLAMPOUT (out) "The CLAMPOUT pin can provide a dc restoration or a bias source function (see AC reference generation section). If neither function is required then the clamp can be disabled to save power (see power management section).", 22 REFT "Top ADC reference voltage", 23 MODE (in) "Operating mode select (AGND, AVDD/2, AVDD)", 24 REFB (io) "Bottom ADC reference voltage", 25 AIN- (in) "Negative analog input", 26 VREF "Internal or external reference", 27 AIN+ (in) "Positive analog input", 28 AVDD (power) "Analog supply"

## THS1041IPWG4
designator U?
10-Bit, 40 MSPS Low Power ADC with PGA and Internal Precision Clamp, -40 to 85 degC, 28-pin SOP (PW28), Green (RoHS & no Sb/Br); Manufacturer: Texas Instruments; PartNumber: THS1041IPWG4; # Input Channels: 1; Analog Voltage AV/DD(Max)(V): 3.6; Analog Voltage AV/DD(Min)(V): 3; Architecture: Pipeline; ENOB(Bits): 9.5; INL(Max)(+/-LSB): 1.5; Interface: Parallel CMOS; Resolution(Bits): 10; Sample Rate (max)(SPS): 40M; SFDR(dB): 72; SINAD(dB): 59.7; SNR(dB): 60; SubFamily: High Speed ADC (>10MSPS); DatasheetVersion: SLAS289C; PackageVersion: 4040064-7/G, 02/2011; PackageReference: PW28; PackageDescription: 28-Pin Plastic Small Outline, Body 9.7 x 4.4 mm, Pitch 0.65 mm; Supplier 1: Digi-Key; Supplier Part Number 1: TLC5510AINSR-ND; Supplier 2: Newark; Supplier Part Number 2: 76C7434; Supplier 3: Mouser; Supplier Part Number 3: 595-TLC5510AINSR; Digital Supply(Max)(V): 3.6; Digital Supply(Min)(V): 3; Eco-Plan: Green (RoHS & no Sb/Br); Mounting Technology: Surface Mount; Code_JEDEC: MO-153; ComponentLink1Description: Manufacturer URL; ComponentLink1URL: http://www.ti.com/; ComponentLink2Description: Datasheet; ComponentLink2URL: http://www.ti.com/general/docs/lit/getliterature.tsp?genericPartNumber=THS1041&fileType=pdf; ComponentLink3Description: Package Specification; ComponentLink3URL: http://www.ti.com/litv/pdf/mpds364
footprint TI-PW28_N (SOP, 28-Leads, Body 9.7x4.4mm, Pitch 0.65mm, IPC Medium Density)
footprint TI-PW28_L (SOP, 28-Leads, Body 9.7x4.4mm, Pitch 0.65mm, IPC High Density)
footprint TI-PW28_M (SOP, 28-Leads, Body 9.7x4.4mm, Pitch 0.65mm, IPC Low Density)
pins: 1 AGND (power) "Analog ground", 2 DVDD (power) "Digital supply", 3 I/O0 (io) "Digital I/O bit 0", 4 I/O1 (io) "Digital I/O bit 1", 5 I/O2 (io) "Digital I/O bit 2", 6 I/O3 (io) "Digital I/O bit 3", 7 I/O4 (io) "Digital I/O bit 4", 8 I/O5 (io) "Digital I/O bit 5", 9 I/O6 (io) "Digital I/O bit 6", 10 I/O7 (io) "Digital I/O bit 7", 11 I/O8 (io) "Digital I/O bit 8", 12 I/O9 (io) "Digital I/O bit 9", 13 OVR (out) "Out-of-range indicator", 14 DGND (power) "Digital ground", 15 CLK (in) "Clock input", 16 ~{OE} (in) "High to high-impedance state the data bus, low to enable the data bus", 17 WR (in) "Write strobe", 18 REFSENSE (in) "VREF mode control", 19 CLAMP (in) "High to enable clamp mode, low to disable clamp mode", 20 CLAMPIN (in) "Connect to an external analog clamp reference input.", 21 CLAMPOUT (out) "The CLAMPOUT pin can provide a dc restoration or a bias source function (see AC reference generation section). If neither function is required then the clamp can be disabled to save power (see power management section).", 22 REFT "Top ADC reference voltage", 23 MODE (in) "Operating mode select (AGND, AVDD/2, AVDD)", 24 REFB (io) "Bottom ADC reference voltage", 25 AIN- (in) "Negative analog input", 26 VREF "Internal or external reference", 27 AIN+ (in) "Positive analog input", 28 AVDD (power) "Analog supply"

## THS1206CDA
designator U?
12-Bit, 6 MSPS ADC Quad Channel (Configuration), DSP / uP Interface, Integral 16 x FIFO, Channel Autoscan, Low Power, 0 to 70 degC, 32-pin SOP (DA32), Green (RoHS & no Sb/Br); Manufacturer: Texas Instruments; PartNumber: THS1206CDA; # Input Channels: 4; Analog Voltage AV/DD(Max)(V): 5.25; Analog Voltage AV/DD(Min)(V): 4.75; Architecture: Pipeline; Digital Supply(Min)(V): 3; ENOB(Bits): 11; INL(Max)(+/-LSB): 1.5; Interface: Parallel CMOS; Resolution(Bits): 12; Sample Rate (max)(SPS): 6M; SFDR(dB): 71; SINAD(dB): 65; SNR(dB): 69; SubFamily: Precision ADC (<=10MSPS); DatasheetVersion: SLAS217H; PackageVersion: 4040066/F, 01/2009; PackageReference: DA32; PackageDescription: 32-Pin Plastic Small Outline, Body 11 x 6.1 mm, Pitch 0.65 mm; Supplier 1: Digi-Key; Supplier Part Number 1: TLC5510AINSRG4-ND; Supplier 2: Newark; Supplier Part Number 2: 54K1005; Supplier 3: Mouser; Supplier Part Number 3: 595-TLC5510AINSRG4; Digital Supply(Max)(V): 5.25; Eco-Plan: Green (RoHS & no Sb/Br); Mounting Technology: Surface Mount; Code_JEDEC: MO-225; ComponentLink1Description: Manufacturer URL; ComponentLink1URL: http://www.ti.com/; ComponentLink2Description: Datasheet; ComponentLink2URL: http://www.ti.com/general/docs/lit/getliterature.tsp?genericPartNumber=THS1206&fileType=pdf; ComponentLink3Description: Package Specification; ComponentLink3URL: http://www.ti.com/lit/ml/mtss002e/mtss002e.pdf
footprint TI-DA32_N (SOP, 32-Leads, Body 11x6.1mm, Pitch 0.65mm, IPC Medium Density)
footprint TI-DA32_L (SOP, 32-Leads, Body 11x6.1mm, Pitch 0.65mm, IPC High Density)
footprint TI-DA32_M (SOP, 32-Leads, Body 11x6.1mm, Pitch 0.65mm, IPC Low Density)
pins: 1 D0 (io) "Digital input, output; D0 = LSB", 2 D1 (io) "Digital input, output", 3 D2 (io) "Digital input, output", 4 D3 (io) "Digital input, output", 5 D4 (io) "Digital input, output", 6 D5 (io) "Digital input, output", 7 BVDD (power) "Digital supply voltage for buffer", 8 BGND (power) "Digital ground for buffer", 9 D6 (io) "Digital input, output", 10 D7 (io) "Digital input, output", 11 D8 (io) "Digital input, output", 12 D9 (io) "Digital input, output", 13 D10/RA0 (io) "Digital input, output. The data line D10 is also used as an address line (RA0) for the control register. This is required for writing to the control register 0 and control register 1.", 14 D11/RA1 (io) "Digital input, output (D11 = MSB). The data line D11 is also used as an address line (RA1) for the control register. This is required for writing to control register 0 and control register 1.", 15 CONV_CLK (~{CONVST}) (in) "Digital input. This input is used to apply an external conversion clock in continuous conversion mode. In single conversion mode, this input functions as the conversion start (C\O\N\V\S\T\) input. A high to low transition on (See Datasheet)", 16 DATA_AV (out) "Data available signal, which can be used to generate an interrupt for processors and as a level information of the internal FIFO. This signal can be configured to be active low or high and can be configured as a static level (See Datasheet)", 17 DGND (power) "Digital ground. Ground reference for digital circuitry.", 18 DVDD (power) "Digital supply voltage", 19 ~{RD} (in) "The R\D\ input is used only if the W\R\ input is configured as a write only input. In this case, it is a digital input, active low as a data read select from the processor.", 20 ~{WR} (R/~{W}) (in) "This input is programmable. It functions as a read-write input R/W and can also be configured as a write-only input W\R\, which is active low and used as data write select from the processor. In this case, the R\D\ input is (See Datasheet)", 21 CS1 (in) "Chip select input (active high)", 22 ~{CS0} (in) "Chip select input (active low)", 23 AVDD (power) "Analog supply voltage", 24 AGND (power) "Analog ground", 25 REFM (in) "Reference input, requires a bypass capacitor of 10 uF to AGND in order to bypass the internal reference voltage. An external reference voltage at this input can be applied. This option can be programmed through control (See Datasheet)", 26 REFP (in) "Reference input, requires a bypass capacitor of 10 uF to AGND in order to bypass the internal reference voltage. An external reference voltage at this input can be applied. This option can be programmed through control (See Datasheet)", 27 REFOUT (out) "Analog fixed reference output voltage of 2.5 V. Sink and source capability of 250 uA. The reference output requires a capacitor of 10 uF to AGND for filtering and stability.", 28 REFIN (in) "Common-mode reference input for the analog input channels. It is recommended that this pin be connected to the reference output REFOUT.", 29 BINM (in) "Analog input, single-ended or negative input of differential channel B", 30 BINP (in) "Analog input, single-ended or positive input of differential channel B", 31 AINM (in) "Analog input, single-ended or negative input of differential channel A", 32 AINP (in) "Analog input, single-ended or positive input of differential channel A"

## THS1206CDAG4
designator U?
12-Bit, 6 MSPS ADC Quad Channel (Configuration), DSP / uP Interface, Integral 16 x FIFO, Channel Autoscan, Low Power, 0 to 70 degC, 32-pin SOP (DA32), Green (RoHS & no Sb/Br); Manufacturer: Texas Instruments; PartNumber: THS1206CDAG4; # Input Channels: 4; Analog Voltage AV/DD(Max)(V): 5.25; Analog Voltage AV/DD(Min)(V): 4.75; Architecture: Pipeline; Digital Supply(Min)(V): 3; ENOB(Bits): 11; INL(Max)(+/-LSB): 1.5; Interface: Parallel CMOS; Resolution(Bits): 12; Sample Rate (max)(SPS): 6M; SFDR(dB): 71; SINAD(dB): 65; SNR(dB): 69; SubFamily: Precision ADC (<=10MSPS); DatasheetVersion: SLAS217H; PackageVersion: 4040066/F, 01/2009; PackageReference: DA32; PackageDescription: 32-Pin Plastic Small Outline, Body 11 x 6.1 mm, Pitch 0.65 mm; Supplier 1: Digi-Key; Supplier Part Number 1: 296-18132-ND; Supplier 2: Digi-Key; Supplier Part Number 2: 296-18132-2-ND; Supplier 3: Newark; Supplier Part Number 3: 79R8504; Supplier 4: Mouser; Supplier Part Number 4: 595-THS1408MPHPEP; Digital Supply(Max)(V): 5.25; Eco-Plan: Green (RoHS & no Sb/Br); Mounting Technology: Surface Mount; Code_JEDEC: MO-225; ComponentLink1Description: Manufacturer URL; ComponentLink1URL: http://www.ti.com/; ComponentLink2Description: Datasheet; ComponentLink2URL: http://www.ti.com/general/docs/lit/getliterature.tsp?genericPartNumber=THS1206&fileType=pdf; ComponentLink3Description: Package Specification; ComponentLink3URL: http://www.ti.com/lit/ml/mtss002e/mtss002e.pdf
footprint TI-DA32_N (SOP, 32-Leads, Body 11x6.1mm, Pitch 0.65mm, IPC Medium Density)
footprint TI-DA32_L (SOP, 32-Leads, Body 11x6.1mm, Pitch 0.65mm, IPC High Density)
footprint TI-DA32_M (SOP, 32-Leads, Body 11x6.1mm, Pitch 0.65mm, IPC Low Density)
pins: 1 D0 (io) "Digital input, output; D0 = LSB", 2 D1 (io) "Digital input, output", 3 D2 (io) "Digital input, output", 4 D3 (io) "Digital input, output", 5 D4 (io) "Digital input, output", 6 D5 (io) "Digital input, output", 7 BVDD (power) "Digital supply voltage for buffer", 8 BGND (power) "Digital ground for buffer", 9 D6 (io) "Digital input, output", 10 D7 (io) "Digital input, output", 11 D8 (io) "Digital input, output", 12 D9 (io) "Digital input, output", 13 D10/RA0 (io) "Digital input, output. The data line D10 is also used as an address line (RA0) for the control register. This is required for writing to the control register 0 and control register 1.", 14 D11/RA1 (io) "Digital input, output (D11 = MSB). The data line D11 is also used as an address line (RA1) for the control register. This is required for writing to control register 0 and control register 1.", 15 CONV_CLK (~{CONVST}) (in) "Digital input. This input is used to apply an external conversion clock in continuous conversion mode. In single conversion mode, this input functions as the conversion start (C\O\N\V\S\T\) input. A high to low transition on (See Datasheet)", 16 DATA_AV (out) "Data available signal, which can be used to generate an interrupt for processors and as a level information of the internal FIFO. This signal can be configured to be active low or high and can be configured as a static level (See Datasheet)", 17 DGND (power) "Digital ground. Ground reference for digital circuitry.", 18 DVDD (power) "Digital supply voltage", 19 ~{RD} (in) "The R\D\ input is used only if the W\R\ input is configured as a write only input. In this case, it is a digital input, active low as a data read select from the processor.", 20 ~{WR} (R/~{W}) (in) "This input is programmable. It functions as a read-write input R/W and can also be configured as a write-only input W\R\, which is active low and used as data write select from the processor. In this case, the R\D\ input is (See Datasheet)", 21 CS1 (in) "Chip select input (active high)", 22 ~{CS0} (in) "Chip select input (active low)", 23 AVDD (power) "Analog supply voltage", 24 AGND (power) "Analog ground", 25 REFM (in) "Reference input, requires a bypass capacitor of 10 uF to AGND in order to bypass the internal reference voltage. An external reference voltage at this input can be applied. This option can be programmed through control (See Datasheet)", 26 REFP (in) "Reference input, requires a bypass capacitor of 10 uF to AGND in order to bypass the internal reference voltage. An external reference voltage at this input can be applied. This option can be programmed through control (See Datasheet)", 27 REFOUT (out) "Analog fixed reference output voltage of 2.5 V. Sink and source capability of 250 uA. The reference output requires a capacitor of 10 uF to AGND for filtering and stability.", 28 REFIN (in) "Common-mode reference input for the analog input channels. It is recommended that this pin be connected to the reference output REFOUT.", 29 BINM (in) "Analog input, single-ended or negative input of differential channel B", 30 BINP (in) "Analog input, single-ended or positive input of differential channel B", 31 AINM (in) "Analog input, single-ended or negative input of differential channel A", 32 AINP (in) "Analog input, single-ended or positive input of differential channel A"

## THS1206CDAR
designator U?
12-Bit, 6 MSPS ADC Quad Channel (Configuration), DSP / uP Interface, Integral 16 x FIFO, Channel Autoscan, Low Power, 0 to 70 degC, 32-pin SOP (DA32), Green (RoHS & no Sb/Br); Manufacturer: Texas Instruments; PartNumber: THS1206CDAR; # Input Channels: 4; Analog Voltage AV/DD(Max)(V): 5.25; Analog Voltage AV/DD(Min)(V): 4.75; Architecture: Pipeline; Digital Supply(Min)(V): 3; ENOB(Bits): 11; INL(Max)(+/-LSB): 1.5; Interface: Parallel CMOS; Resolution(Bits): 12; Sample Rate (max)(SPS): 6M; SFDR(dB): 71; SINAD(dB): 65; SNR(dB): 69; SubFamily: Precision ADC (<=10MSPS); DatasheetVersion: SLAS217H; PackageVersion: 4040066/F, 01/2009; PackageReference: DA32; PackageDescription: 32-Pin Plastic Small Outline, Body 11 x 6.1 mm, Pitch 0.65 mm; Supplier 1: Mouser; Supplier Part Number 1: 595-V62/03608-03XE; Digital Supply(Max)(V): 5.25; Eco-Plan: Green (RoHS & no Sb/Br); Mounting Technology: Surface Mount; Code_JEDEC: MO-225; ComponentLink1Description: Manufacturer URL; ComponentLink1URL: http://www.ti.com/; ComponentLink2Description: Datasheet; ComponentLink2URL: http://www.ti.com/general/docs/lit/getliterature.tsp?genericPartNumber=THS1206&fileType=pdf; ComponentLink3Description: Package Specification; ComponentLink3URL: http://www.ti.com/lit/ml/mtss002e/mtss002e.pdf
footprint TI-DA32_N (SOP, 32-Leads, Body 11x6.1mm, Pitch 0.65mm, IPC Medium Density)
footprint TI-DA32_L (SOP, 32-Leads, Body 11x6.1mm, Pitch 0.65mm, IPC High Density)
footprint TI-DA32_M (SOP, 32-Leads, Body 11x6.1mm, Pitch 0.65mm, IPC Low Density)
pins: 1 D0 (io) "Digital input, output; D0 = LSB", 2 D1 (io) "Digital input, output", 3 D2 (io) "Digital input, output", 4 D3 (io) "Digital input, output", 5 D4 (io) "Digital input, output", 6 D5 (io) "Digital input, output", 7 BVDD (power) "Digital supply voltage for buffer", 8 BGND (power) "Digital ground for buffer", 9 D6 (io) "Digital input, output", 10 D7 (io) "Digital input, output", 11 D8 (io) "Digital input, output", 12 D9 (io) "Digital input, output", 13 D10/RA0 (io) "Digital input, output. The data line D10 is also used as an address line (RA0) for the control register. This is required for writing to the control register 0 and control register 1.", 14 D11/RA1 (io) "Digital input, output (D11 = MSB). The data line D11 is also used as an address line (RA1) for the control register. This is required for writing to control register 0 and control register 1.", 15 CONV_CLK (~{CONVST}) (in) "Digital input. This input is used to apply an external conversion clock in continuous conversion mode. In single conversion mode, this input functions as the conversion start (C\O\N\V\S\T\) input. A high to low transition on (See Datasheet)", 16 DATA_AV (out) "Data available signal, which can be used to generate an interrupt for processors and as a level information of the internal FIFO. This signal can be configured to be active low or high and can be configured as a static level (See Datasheet)", 17 DGND (power) "Digital ground. Ground reference for digital circuitry.", 18 DVDD (power) "Digital supply voltage", 19 ~{RD} (in) "The R\D\ input is used only if the W\R\ input is configured as a write only input. In this case, it is a digital input, active low as a data read select from the processor.", 20 ~{WR} (R/~{W}) (in) "This input is programmable. It functions as a read-write input R/W and can also be configured as a write-only input W\R\, which is active low and used as data write select from the processor. In this case, the R\D\ input is (See Datasheet)", 21 CS1 (in) "Chip select input (active high)", 22 ~{CS0} (in) "Chip select input (active low)", 23 AVDD (power) "Analog supply voltage", 24 AGND (power) "Analog ground", 25 REFM (in) "Reference input, requires a bypass capacitor of 10 uF to AGND in order to bypass the internal reference voltage. An external reference voltage at this input can be applied. This option can be programmed through control (See Datasheet)", 26 REFP (in) "Reference input, requires a bypass capacitor of 10 uF to AGND in order to bypass the internal reference voltage. An external reference voltage at this input can be applied. This option can be programmed through control (See Datasheet)", 27 REFOUT (out) "Analog fixed reference output voltage of 2.5 V. Sink and source capability of 250 uA. The reference output requires a capacitor of 10 uF to AGND for filtering and stability.", 28 REFIN (in) "Common-mode reference input for the analog input channels. It is recommended that this pin be connected to the reference output REFOUT.", 29 BINM (in) "Analog input, single-ended or negative input of differential channel B", 30 BINP (in) "Analog input, single-ended or positive input of differential channel B", 31 AINM (in) "Analog input, single-ended or negative input of differential channel A", 32 AINP (in) "Analog input, single-ended or positive input of differential channel A"